# EAGLE library part SN65HVD75DRBR (library SN65HVD75DRBR)
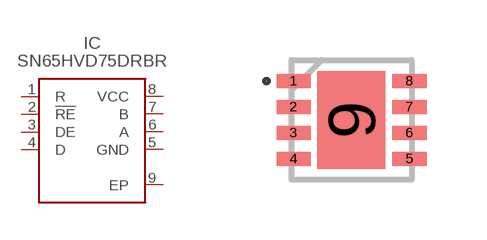
[diagram p0: symbol with the pads of SON65P300X300X100-9N; footprint SON65P300X300X100-9N]

Designator prefix IC

## SN65HVD75DRBR  [SON65P300X300X100-9N]
1  R
2  !RE
3  DE
4  D
5  GND
6  A
7  B
8  VCC
9  EP

## Footprint SON65P300X300X100-9N (pad centres in mm)
smd 0.85 x 0.35: 1 -1.45,0.975; 2 -1.45,0.325; 3 -1.45,-0.325; 4 -1.45,-0.975; 5 1.45,-0.975; 6 1.45,-0.325; 7 1.45,0.325; 8 1.45,0.975
smd 1.7 x 2.45: 9 0,0